# EAGLE library part WE-RJ45_LAN_10/100_BASET_4X_STD_LED (library Wuerth_Elektronik_eiSos_Version_6-12)
WE-RJ45 LAN Transformer 10/100 BaseT with LED x4 - RJ45 connector with integrated transformer common mode choke - 350 µH min.OCL with 8 mA bias - Complies with IEEE 802.3 - Extended temperature range from 0°C to +70°C available -- ADSL Modem -- Embedded PC -- LAN network applications -- Hub, Router, Switches
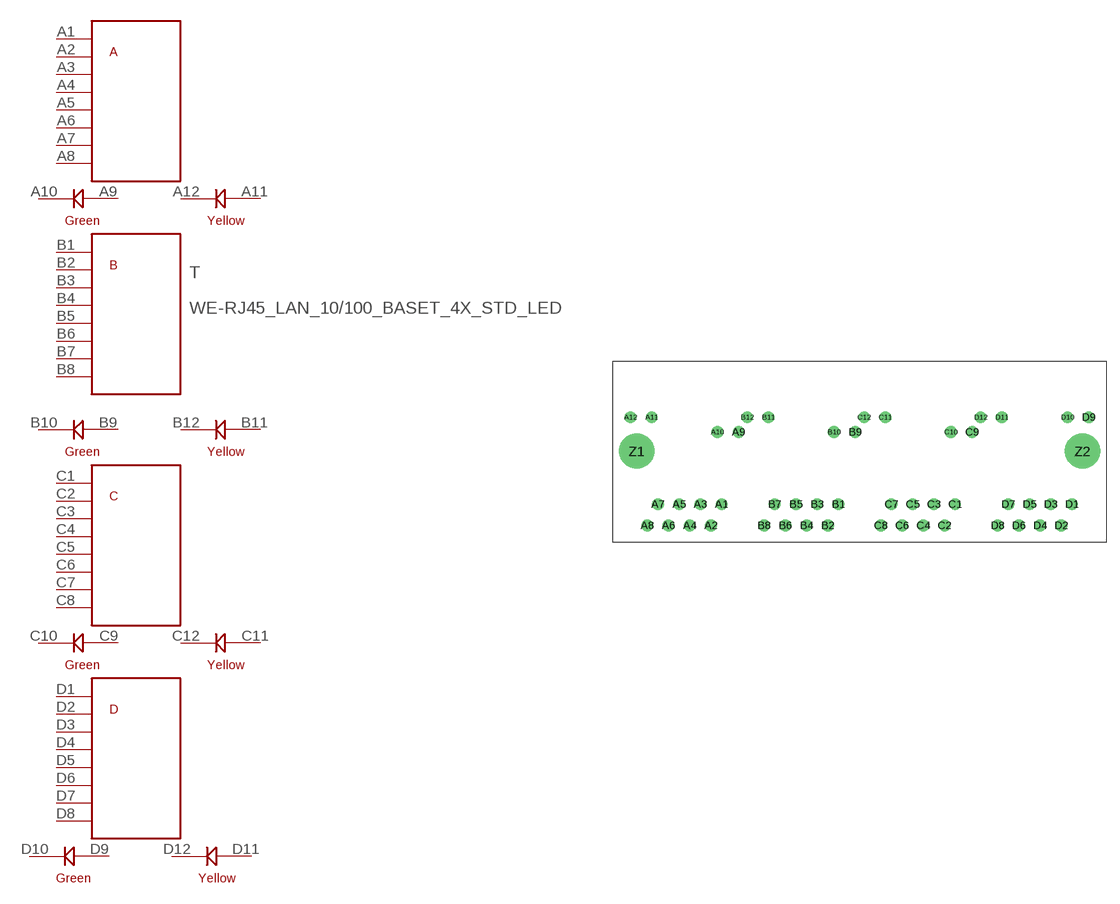
[diagram p106: symbol with the pads of WE-RJ45_LAN_10/100_BASET_7499031211; footprint WE-RJ45_LAN_10/100_BASET_7499031211]

Designator prefix T

## WE-RJ45_LAN_10/100_BASET_4X_STD_LED_7499031211  [WE-RJ45_LAN_10/100_BASET_7499031211]
A1  A1  pas
A2  A2  pas
A3  A3  pas
A4  A4  pas
A5  A5  pas
A6  A6  pas
A7  A7  pas
A8  A8  pas
A9  A9  pas
A10  A10  pas
A11  A11  pas
A12  A12  pas
B1  B1  pas
B2  B2  pas
B3  B3  pas
B4  B4  pas
B5  B5  pas
B6  B6  pas
B7  B7  pas
B8  B8  pas
B9  B9  pas
B10  B10  pas
B11  B11  pas
B12  B12  pas
C1  C1  pas
C2  C2  pas
C3  C3  pas
C4  C4  pas
C5  C5  pas
C6  C6  pas
C7  C7  pas
C8  C8  pas
C9  C9  pas
C10  C10  pas
C11  C11  pas
C12  C12  pas
D1  D1  pas
D2  D2  pas
D3  D3  pas
D4  D4  pas
D5  D5  pas
D6  D6  pas
D7  D7  pas
D8  D8  pas
D9  D9  pas
D10  D10  pas
D11  D11  pas
D12  D12  pas

## Footprint WE-RJ45_LAN_10/100_BASET_7499031211 (pad centres in mm)
WE-RJ45 LAN Transformer 10/100 BaseT with LED x4
drill 0.9 round: A1 -16.51,-6.35; A2 -17.78,-8.89; A3 -19.05,-6.35; A4 -20.32,-8.89; A5 -21.59,-6.35; A6 -22.86,-8.89; A7 -24.13,-6.35; A8 -25.4,-8.89; A9 -14.48,2.29; A10 -17.02,2.29; A11 -24.87,4.06; A12 -27.41,4.06; B1 -2.54,-6.35; B2 -3.81,-8.89; B3 -5.08,-6.35; B4 -6.35,-8.89; B5 -7.62,-6.35; B6 -8.89,-8.89; B7 -10.16,-6.35; B8 -11.43,-8.89; B9 -0.53,2.29; B10 -3.07,2.29; B11 -10.92,4.06; B12 -13.46,4.06; C1 11.43,-6.35; C2 10.16,-8.89; C3 8.89,-6.35; C4 7.62,-8.89; C5 6.35,-6.35; C6 5.08,-8.89; C7 3.81,-6.35; C8 2.54,-8.89; C9 13.46,2.29; C10 10.92,2.29; C11 3.07,4.06; C12 0.53,4.06; D1 25.4,-6.35; D2 24.13,-8.89; D3 22.86,-6.35; D4 21.59,-8.89; D5 20.32,-6.35; D6 19.05,-8.89; D7 17.78,-6.35; D8 16.51,-8.89; D9 27.41,4.06; D10 24.87,4.06; D11 17.02,4.06; D12 14.48,4.06
drill 3.18 round: Z1 -26.67,0; Z2 26.67,0